# EAGLE library part GB_CART (library Mega8515_flasher_v2)
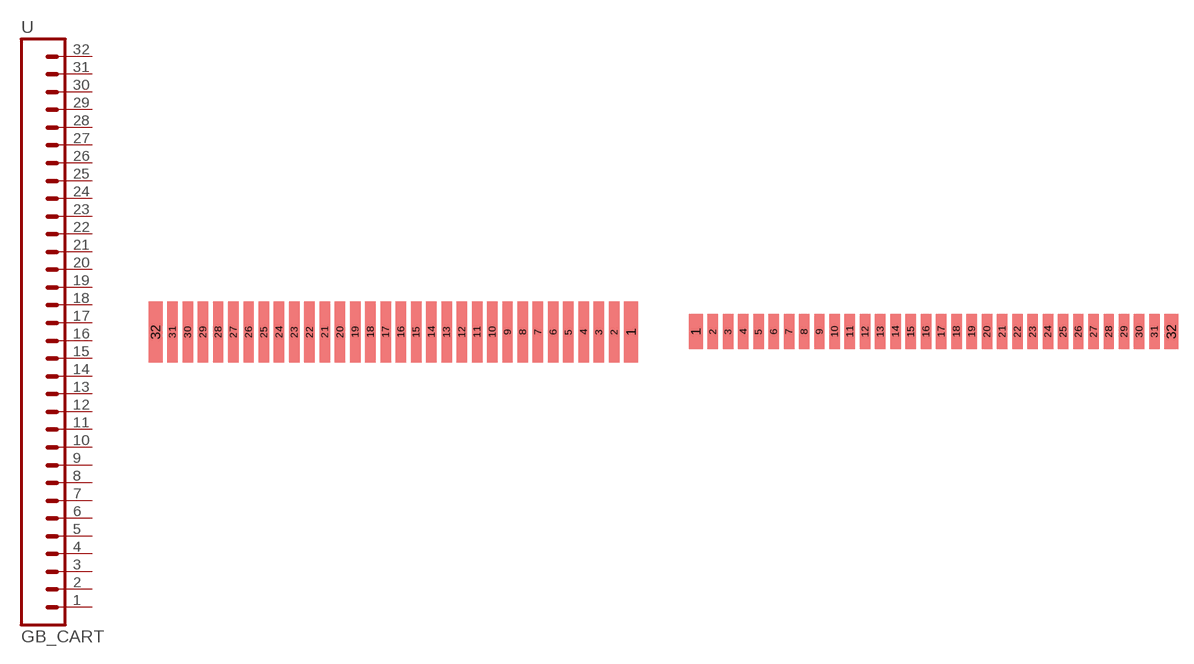
[diagram p3: symbol with the pads of GB_CART; footprints GB_CART, GB_CART_1]

Designator prefix -

## GB_CART  [GB_CART]
1  1  pas
2  2  pas
3  3  pas
4  4  pas
5  5  pas
6  6  pas
7  7  pas
8  8  pas
9  9  pas
10  10  pas
11  11  pas
12  12  pas
13  13  pas
14  14  pas
15  15  pas
16  16  pas
17  17  pas
18  18  pas
19  19  pas
20  20  pas
21  21  pas
22  22  pas
23  23  pas
24  24  pas
25  25  pas
26  26  pas
27  27  pas
28  28  pas
29  29  pas
30  30  pas
31  31  pas
32  32  pas

## GB_CART1  [GB_CART_1]
Pads as for GB_CART

## GB_CARTMH  [1X32]
Pads as for GB_CART

## Footprint GB_CART (pad centres in mm)
smd 1.36 x 6: 1 24.165,0.12; 32 -22.67,0.12
smd 1.03 x 6: 2 22.495,0.12; 3 20.995,0.12; 4 19.495,0.12; 5 17.995,0.12; 6 16.495,0.12; 7 14.995,0.12; 8 13.495,0.12; 9 11.995,0.12; 10 10.495,0.12; 11 8.995,0.12; 12 7.495,0.12; 13 5.995,0.12; 14 4.495,0.12; 15 2.995,0.12; 16 1.495,0.12; 17 -0.005,0.12; 18 -1.505,0.12; 19 -3.005,0.12; 20 -4.505,0.12; 21 -6.005,0.12; 22 -7.505,0.12; 23 -9.005,0.12; 24 -10.505,0.12; 25 -12.005,0.12; 26 -13.505,0.12; 27 -15.005,0.12; 28 -16.505,0.12; 29 -18.005,0.12; 30 -19.505,0.12; 31 -21.005,0.12

## Footprint GB_CART_1 (pad centres in mm)
smd 1.36 x 3.46: 1 -22.895,-0.12; 32 23.94,-0.12
smd 1.03 x 3.46: 2 -21.225,-0.12; 3 -19.725,-0.12; 4 -18.225,-0.12; 5 -16.725,-0.12; 6 -15.225,-0.12; 7 -13.725,-0.12; 8 -12.225,-0.12; 9 -10.725,-0.12; 10 -9.225,-0.12; 11 -7.725,-0.12; 12 -6.225,-0.12; 13 -4.725,-0.12; 14 -3.225,-0.12; 15 -1.725,-0.12; 16 -0.225,-0.12; 17 1.275,-0.12; 18 2.775,-0.12; 19 4.275,-0.12; 20 5.775,-0.12; 21 7.275,-0.12; 22 8.775,-0.12; 23 10.275,-0.12; 24 11.775,-0.12; 25 13.275,-0.12; 26 14.775,-0.12; 27 16.275,-0.12; 28 17.775,-0.12; 29 19.275,-0.12; 30 20.775,-0.12; 31 22.275,-0.12

## Footprint 1X32 (pad centres in mm)
drill 1.016 pad 1.88: 1 0,0; 2 2.54,0; 3 5.08,0; 4 7.62,0; 5 10.16,0; 6 12.7,0; 7 15.24,0; 8 17.78,0; 9 20.32,0; 10 22.86,0; 11 25.4,0; 12 27.94,0; 13 30.48,0; 14 33.02,0; 15 35.56,0; 16 38.1,0; 17 40.64,0; 18 43.18,0; 19 45.72,0; 20 48.26,0; 21 50.8,0; 22 53.34,0; 23 55.88,0; 24 58.42,0; 25 60.96,0; 26 63.5,0; 27 66.04,0; 28 68.58,0; 29 71.12,0; 30 73.66,0; 31 76.2,0; 32 78.74,0